# Altium schematic symbol library GRC sch library.SchLib: 282 symbols (part 2 of 3)
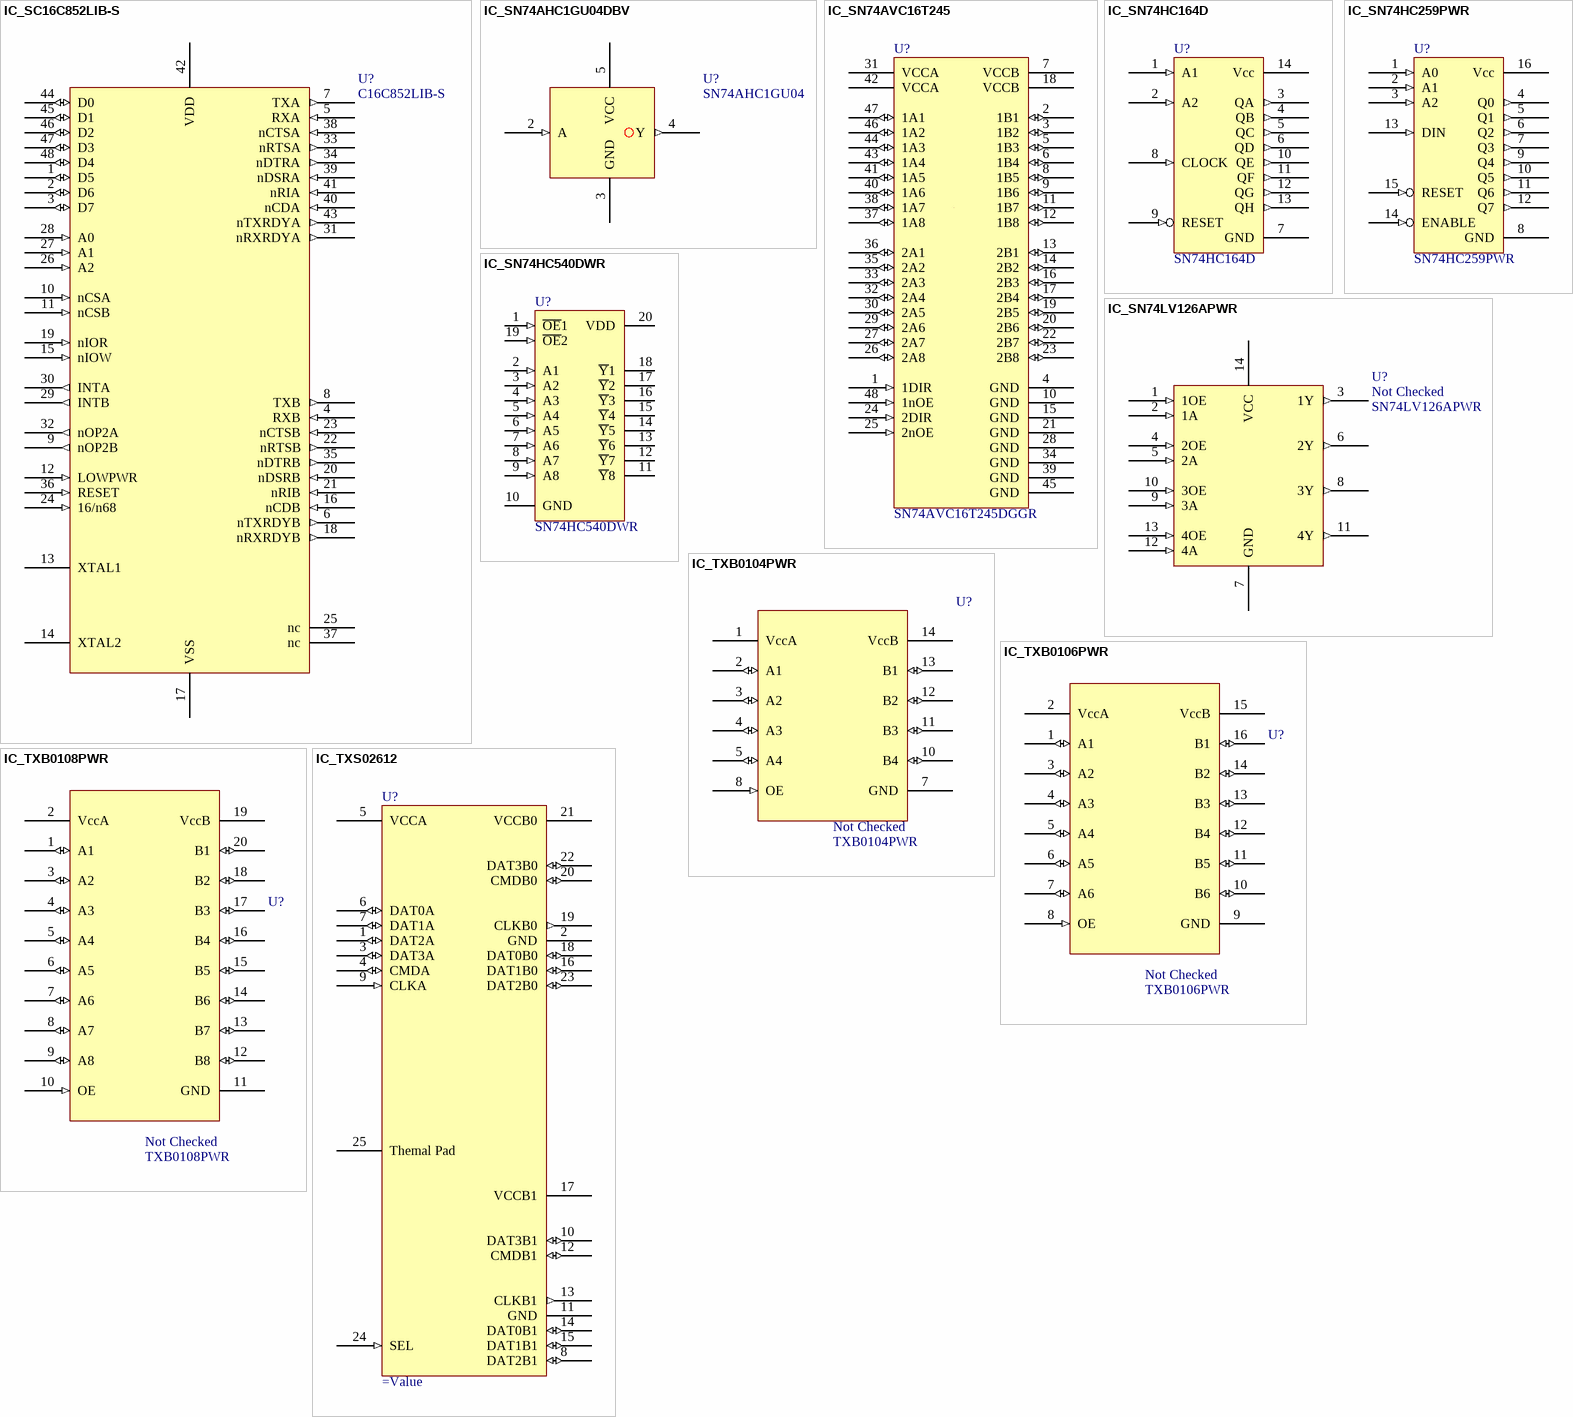
[diagram p10: symbols IC_SC16C852LIB-S to IC_TXS02612]

## IC_SN74HC540DWR
designator U?  value SN74HC540DWR  (hidden comment: IC_SN74HC540DWR)
IC OCT BUFF/DRVR TRI-ST 20-SOIC; Manufacturer: Texas Instrument; Prototype: Digikey  296-8333-1-ND; Manufacturer P/N: SN74HC540DWR
footprint G_SOIC-20 (SOIC, 20pins, 1.27 pitch)
pins: 1 ~{OE}1 (in), 2 A1 (in), 3 A2 (in), 4 A3 (in), 5 A4 (in), 6 A5 (in), 7 A6 (in), 8 A7 (in), 9 A8 (in), 10 GND (power), 11 ~{Y}8 (hiz), 12 ~{Y}7 (hiz), 13 ~{Y}6 (hiz), 14 ~{Y}5 (hiz), 15 ~{Y}4 (hiz), 16 ~{Y}3 (hiz), 17 ~{Y}2 (hiz), 18 ~{Y}1 (hiz), 19 ~{OE}2 (in), 20 VDD (power)

## IC_SN74LV126APWR
designator U?  value SN74LV126APWR  Verify: Not Checked  (hidden comment: *)
IC BUS BUF/GATE QUAD 3ST 14TSSOP; Manufacturer: Texas Instruments; Prototype: Digikey: 296-12992-1-ND; LastRevisionDate: n/a; Manufacturer PN: SN74LV126APWR
footprint G_TSSOP14 (Shrink Small Outline; 16 Leads; Body Width 4.4 mm; Pitch 0.65 mm)
pins: 1 1OE (in), 2 1A (in), 3 1Y (out), 4 2OE (in), 5 2A (in), 6 2Y (out), 7 GND (power), 8 3Y (out), 9 3A (in), 10 3OE (in), 11 4Y (out), 12 4A (in), 13 4OE (in), 14 VCC (power)

## IC_TXB0104PWR
designator U?  value TXB0104PWR  Verify: Not Checked  (hidden comment: *)
IC VOLT-LEVEL TRANSLATOR 14TSSOP; Manufacturer: Texas Instruments; Prototype: Digikey 296-21929-1-ND; LastRevisionDate: n/a; Manufacturer PN: TXB0104PWR
footprint TSSOP-14_PW (TSOP, 14-Leads, Body 5.1x4.5mm (max), Pitch 0.65mm, IPC Medium Density)
pins: 1 VccA (power), 2 A1 (io), 3 A2 (io), 4 A3 (io), 5 A4 (io), 7 GND (power), 8 OE (in), 10 B4 (io), 11 B3 (io), 12 B2 (io), 13 B1 (io), 14 VccB (power)

## IC_TXB0106PWR
designator U?  value TXB0106PWR  Verify: Not Checked  (hidden comment: *)
IC VOLT-LEVEL TRANSLATOR 16TSSOP; Manufacturer: Texas Instruments; Prototype: Digikey 296-23759-1-ND; LastRevisionDate: n/a; Manufacturer PN: TXB0106PWR
footprint TSSOP-16_PW (TSOP, 16-Leads, Body 5.1x4.5mm (max), Pitch 0.65mm, IPC Medium Density)
pins: 1 A1 (io), 2 VccA (power), 3 A2 (io), 4 A3 (io), 5 A4 (io), 6 A5 (io), 7 A6 (io), 8 OE (in), 9 GND (power), 10 B6 (io), 11 B5 (io), 12 B4 (io), 13 B3 (io), 14 B2 (io), 15 VccB (power), 16 B1 (io)

## IC_TXB0108PWR
designator U?  value TXB0108PWR  Verify: Not Checked  (hidden comment: *)
IC VOLT-LEVEL TRANSLATOR 20TSSOP; Manufacturer: Texas Instruments; Prototype: Digikey 296-21527-1-ND; LastRevisionDate: n/a; Manufacturer PN: TXB0108PWR
footprint TSSOP-20_PW (TSOP, 20-Leads, Body 6.6x4.5mm (max), Pitch 0.65mm, IPC Medium Density)
pins: 1 A1 (io), 2 VccA (power), 3 A2 (io), 4 A3 (io), 5 A4 (io), 6 A5 (io), 7 A6 (io), 8 A7 (io), 9 A8 (io), 10 OE (in), 11 GND (power), 12 B8 (io), 13 B7 (io), 14 B6 (io), 15 B5 (io), 16 B4 (io), 17 B3 (io), 18 B2 (io), 19 VccB (power), 20 B1 (io)

## IC_TXS02612
designator U?
SDIO port expander with Voltage-Level Translation
pins: 1 DAT2A (io), 2 GND (power), 3 DAT3A (io), 4 CMDA (io), 5 VCCA (power), 6 DAT0A (io), 7 DAT1A (io), 8 DAT2B1 (io), 9 CLKA (in), 10 DAT3B1 (io), 11 GND (power), 12 CMDB1 (io), 13 CLKB1 (out), 14 DAT0B1 (io), 15 DAT1B1 (io), 16 DAT1B0 (io), 17 VCCB1 (power), 18 DAT0B0 (io), 19 CLKB0 (out), 20 CMDB0 (io), 21 VCCB0 (power), 22 DAT3B0 (io), 23 DAT2B0 (io), 24 SEL (in), 25 Themal Pad (power)

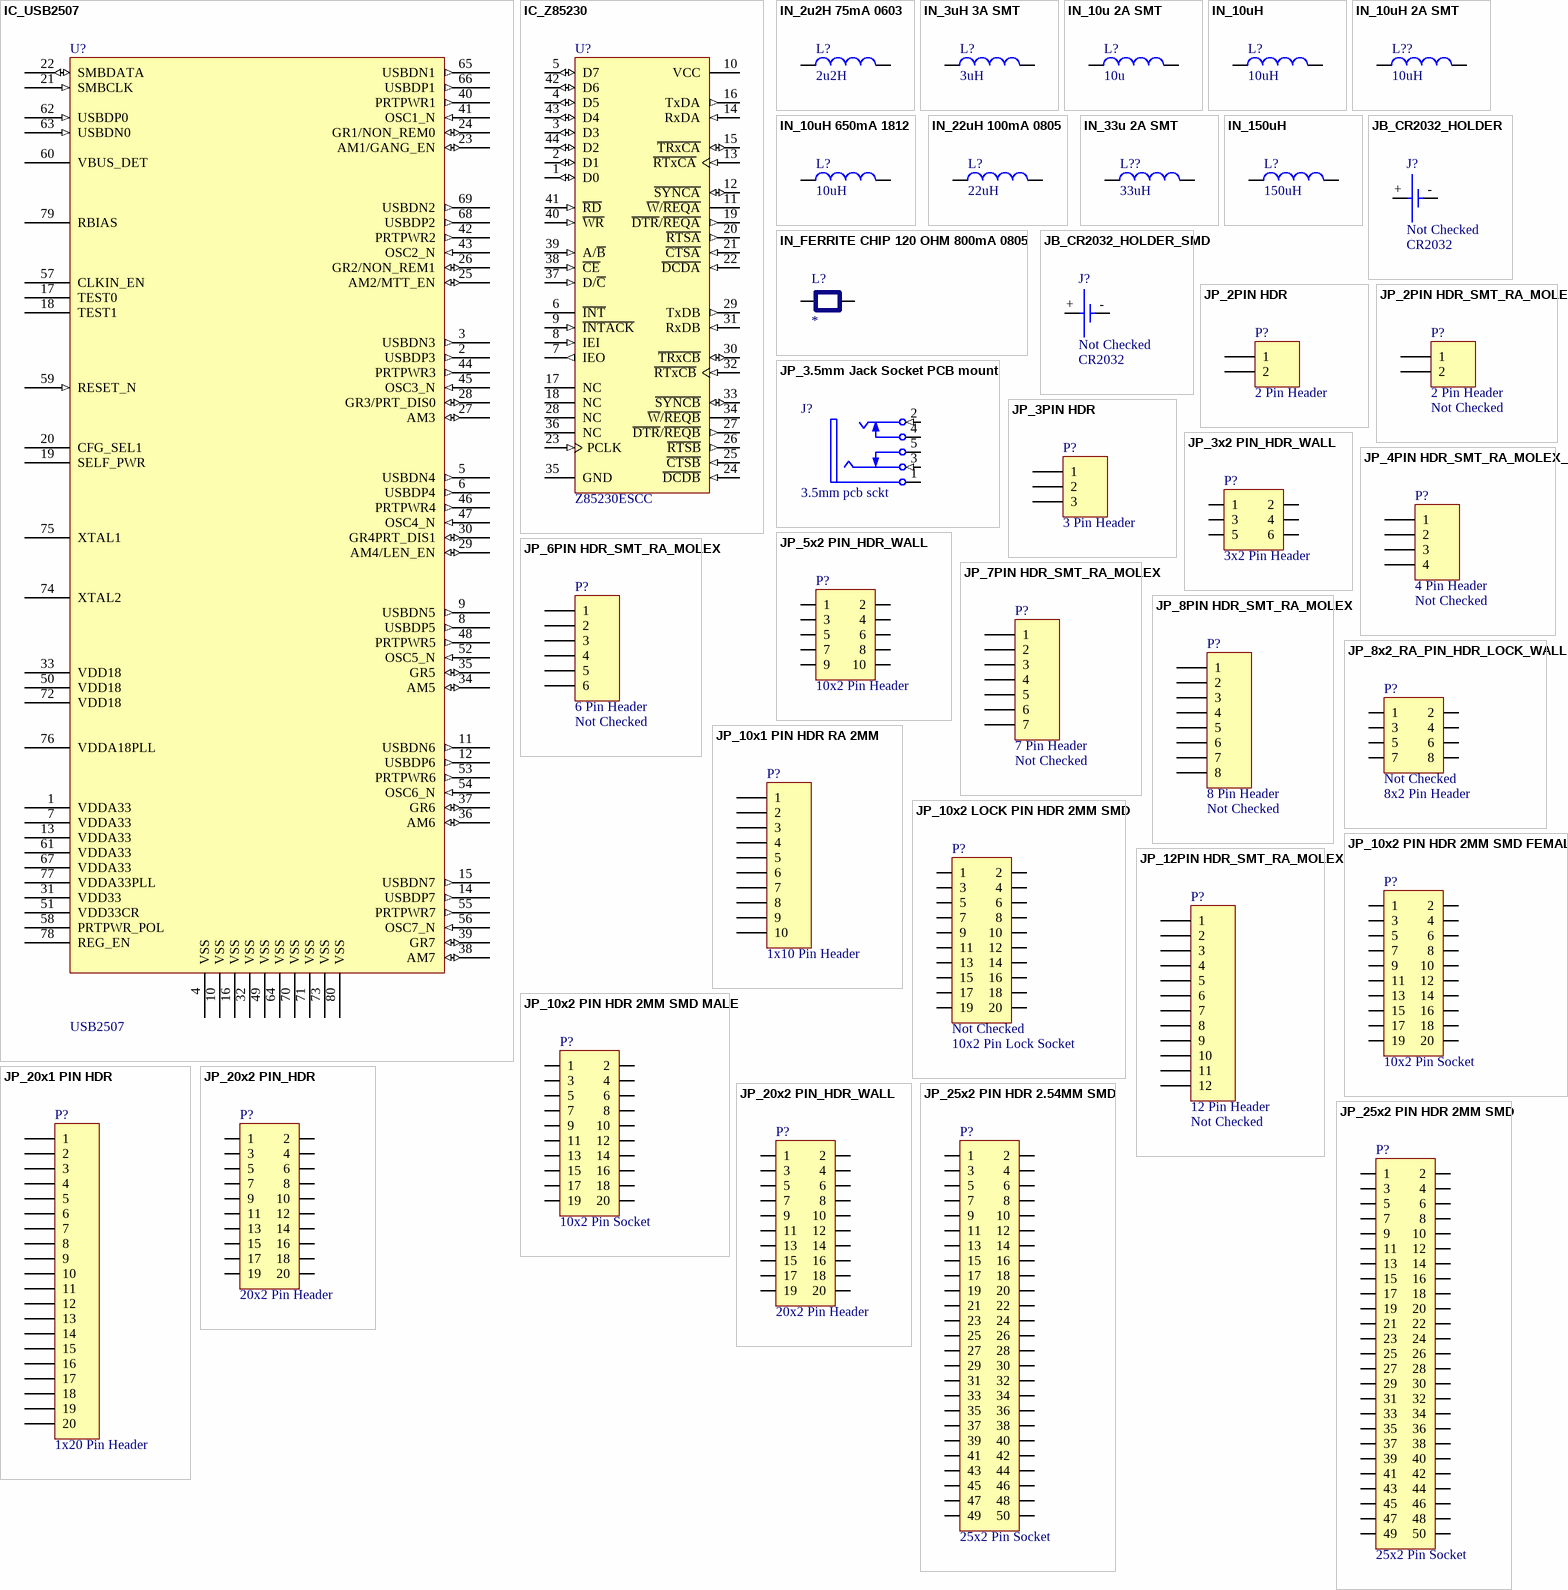
[diagram p5: symbols IC_USB2507 to JP_25x2 PIN HDR 2MM SMD]

## IC_USB2507
designator U?, comment USB2507
USB 2.0 480 Mbit Hub, 7 ports
pins: 1 VDDA33 (power), 2 USBDP3 (out), 3 USBDN3 (out), 4 VSS (power), 5 USBDN4 (out), 6 USBDP4 (out), 7 VDDA33 (power), 8 USBDP5 (out), 9 USBDN5 (out), 10 VSS (power), 11 USBDN6 (out), 12 USBDP6 (out), 13 VDDA33 (power), 14 USBDP7 (out), 15 USBDN7 (out), 16 VSS (power), 17 TEST0 (power), 18 TEST1 (power), 19 SELF_PWR (power), 20 CFG_SEL1 (power), 21 SMBCLK (in), 22 SMBDATA (io), 23 AM1/GANG_EN (io), 24 GR1/NON_REM0 (io), 25 AM2/MTT_EN (io), 26 GR2/NON_REM1 (io), 27 AM3 (io), 28 GR3/PRT_DIS0 (io), 29 AM4/LEN_EN (io), 30 GR4PRT_DIS1 (io), 31 VDD33 (power), 32 VSS (power), 33 VDD18 (power), 34 AM5 (io), 35 GR5 (io), 36 AM6 (io), 37 GR6 (io), 38 AM7 (io), 39 GR7 (io), 40 PRTPWR1 (out), 41 OSC1_N (in), 42 PRTPWR2 (out), 43 OSC2_N (in), 44 PRTPWR3 (out), 45 OSC3_N (in), 46 PRTPWR4 (out), 47 OSC4_N (in), 48 PRTPWR5 (out), 49 VSS (power), 50 VDD18 (power), 51 VDD33CR (power), 52 OSC5_N (in), 53 PRTPWR6 (out), 54 OSC6_N (in), 55 PRTPWR7 (out), 56 OSC7_N (in), 57 CLKIN_EN (power), 58 PRTPWR_POL (power), 59 RESET_N (in), 60 VBUS_DET (power), 61 VDDA33 (power), 62 USBDP0 (in), 63 USBDN0 (in), 64 VSS (power), 65 USBDN1 (out), 66 USBDP1 (out), 67 VDDA33 (power), 68 USBDP2 (out), 69 USBDN2 (out), 70 VSS (power), 71 VSS (power), 72 VDD18 (power), 73 VSS (power), 74 XTAL2 (power), 75 XTAL1 (power), 76 VDDA18PLL (power), 77 VDDA33PLL (power), 78 REG_EN (power), 79 RBIAS (power), 80 VSS (power)

## IC_Z85230
designator U?  value Z85230ESCC  (hidden comment: *)
IC 10MHZ ESCC 44-PLCC; Manufacturer: Zilog; ManufacturerPN: Z8523010VSG; Prototype: Digikey 269-3923-ND; Verify: Not Verified
footprint PCC44-M (Leaded Chip Carrier, 44-Leads, Body 16.6x16.6mm, Pitch 1.27mm, IPC Low Density)
pins: 1 D0 (io), 2 D1 (io), 3 D3 (io), 4 D5 (io), 5 D7 (io), 6 ~{INT} (oc), 7 IEO (out), 8 IEI (in), 9 ~{INTACK} (in), 10 VCC (power), 11 ~{W}/~{REQA} (oc), 12 ~{SYNCA} (io), 13 ~{RTxCA} (in), 14 RxDA (in), 15 ~{TRxCA} (io), 16 TxDA (out), 17 NC, 18 NC, 19 ~{DTR}/~{REQA} (out), 20 ~{RTSA} (out), 21 ~{CTSA} (in), 22 ~{DCDA} (in), 23 PCLK (in), 24 ~{DCDB} (in), 25 ~{CTSB} (in), 26 ~{RTSB} (out), 27 ~{DTR}/~{REQB} (out), 28 NC, 29 TxDB (out), 30 ~{TRxCB} (io), 31 RxDB (in), 32 ~{RTxCB} (in), 33 ~{SYNCB} (io), 34 ~{W}/~{REQB} (oc), 35 GND (power), 36 NC, 37 D/~{C} (in), 38 ~{CE} (in), 39 A/~{B} (in), 40 ~{WR} (in), 41 ~{RD} (in), 42 D6 (io), 43 D4 (io), 44 D2 (io)

## IN_2u2H 75mA 0603
designator L?, comment 2u2H
INDUCTOR 2.2UH 75MA 20% 0603; Manufacturer PN: GLF1608T2R2M; Manufacturer: TDK Corporation; Prototype: Digikey 445-3152-1-ND; LatestRevisionDate: 29 May 08; Value: 2u2H
simulation model INDUCTOR (Inductor)
signal-integrity model Inductor
footprint 0603 (Non polarized 0603 footprint)
pins: 1, 2

## IN_3uH 3A SMT
designator L?, comment 3uH
Inductor 3uH 3A SMD; Manufacturer: API Delevan Inc; Manufacturer PN: SDS130R-302N; Prototype: Digikey DN7525CT-ND; LatestRevisionDate: 29 May 08; Value: 3uH
simulation model INDUCTOR (Inductor)
signal-integrity model Inductor
footprint SMD_CHOKE_3A (Surface Mount Shielded Power Choke)
pins: 1, 2

## IN_10u 2A SMT
designator L?, comment value 10u  (hidden comment: Inductor)
INDUCTOR POWER 10UH 2.0A SMD; Manufacturer: Wurth Electronics Inc; Manufacturer PN: 744777910; Code_IEC: 1005; Prototype: Digikey 732-1191-1-ND; Published: 8-Jun-2000; LatestRevisionDate: 17-Jul-2002; LatestRevisionNote: Re-released for DXP Platform.; PackageReference: 0402-A; Publisher: Altium Limited; Code_JEITA: 0402
simulation model INDUCTOR (Inductor)
signal-integrity model Inductor
footprint WE-PD (Inductor 7.6x7.6mm)
pins: 1, 2

## IN_10uH
designator L?, comment 10uH
Tayo-Yuden NP04SZB100M; Prototype: Digikey 587-1681-1-ND; LatestRevisionDate: 29 May 08; Manufacturer: Tayo-Yuden; Manufacturer PN: NP04SZB100M; Value: 10uH
simulation model INDUCTOR (Inductor)
signal-integrity model Inductor
footprint INDUCT_NP04S (Tayo-Yuden Inductor NP04S series)
pins: 1, 2

## IN_10uH 2A SMT
designator L??, comment 10uH
INDUCTOR POWER 10UH 2.0A SMD; Manufacturer: Wurth Electronics Inc; Manufacturer PN: 744777910; Prototype: Digikey 732-1191-1-ND; LatestRevisionDate: 29 May 08; Value: 10uH
simulation model INDUCTOR (Inductor)
signal-integrity model Inductor
footprint WE-PD (Inductor 7.6x7.6mm)
pins: 1, 2

## IN_10uH 650mA 1812
designator L?, comment 10uH
INDUCTOR 10UH 10% 650mA 1812; Manufacturer PN: LQH43CN100K03L; Manufacturer: Murata; Prototype: Digikey   490-2519-1-ND; LatestRevisionDate: 28 July 2008; Value: 10uH
simulation model INDUCTOR (Inductor)
signal-integrity model Inductor
footprint G_1812 (Footprint not found)
pins: 1, 2

## IN_22uH 100mA 0805
designator L?, comment 22uH
Inductor 22uH 100mA 10% 0805; Manufacturer PN: GLF2012T220K; Manufacturer: TDK Corporation; Prototype: Digikey 445-3160-1-ND; LatestRevisionDate: 29 May 08; Value: 22uH
simulation model INDUCTOR (Inductor)
signal-integrity model Inductor
footprint 0805
pins: 1, 2

## IN_33u 2A SMT
designator L??, comment value 33uH  (hidden comment: Inductor)
INDUCTOR POWER SHIELD 33UH 2.6A SMD; Manufacturer: Coiltronics; Manufacturer PN: DR124-330-R; Prototype: Digikey 513-1435-1-ND; Verify: Not Checked; LatestRevisionDate: 20 Feb 09
simulation model INDUCTOR (Inductor)
signal-integrity model Inductor
footprint dr124 (Coiltronics DR124 Series Inductor)
pins: 1, 2

## IN_150uH
designator L?, comment 150uH
AlfaMag SH50S Series 150uF, 2A, 50KHz; Manufacturer: AlfaMag Electronics, LLC; Manufacturer PN: SH50S-2.0-150; Prototype: Digikey TE2143CT-ND; LatestRevisionDate: 12 January 09; Value: 150uH
simulation model INDUCTOR (Inductor)
signal-integrity model Inductor
footprint INDUCT_SH50S6A (Talema SH50 Series Package S6A SMD inductor)
pins: 1, 2

## IN_FERRITE CHIP 120 OHM 800mA 0805
designator L?
FERRITE CHIP 120 OHM 800mA 0805; Manufacturer: TDK; Manufacturer P/N: MMZ2012Y121B; Prototype: Digikey 	445-2196-1-ND
footprint 0805
pins: 1 0 (power), 2 1 (power)

## JB_CR2032_HOLDER
designator J?, comment Verify: Not Checked  (hidden comment: CR2032)
HOLDER BATTERY FOR 2032 CELL; Manufacturer: MPD (Memory Protection Devices); Manufacturer PN: BH32T-C; Prototype: Digikey BH32T-C-ND; Value: CR2032
footprint CR2032_BAT_HOLDER (CR2032 or BR2032 20mm button battery holder)
pins: +, -

## JB_CR2032_HOLDER_SMD
designator J?, comment Verify: Not Checked  (hidden comment: CR2032)
SMD HOLDER BATTERY FOR 2032 CELL; Manufacturer: MPD (Memory Protection Devices); Manufacturer PN: BA2032SM; Prototype: Digikey BA2032SM-ND; Value: CR2032
footprint CR2032_BATT_HOLDER_MPD (MPD BA Series 2032 Coin Cell holder)
pins: +, -

## JP_2PIN HDR
designator P?, comment 2 Pin Header
CONN HDR VERT 2POS .100" SNGL; LatestRevisionDate: 24 Jun 08; Value: 2 Pin Header
footprint G_HDR1X2 (Connector; Header; 2 Position)
signal-integrity model Connector
pins: 1, 2

## JP_2PIN HDR_SMT_RA_MOLEX
designator P?, comment Verify: Not Checked  (hidden comment: 2 Pin Header)
CONN HDR VERT 2POS .100" SNGL; Manufacturer: Molex; Manufacturer PN: 53261-0271; Prototype: Digikey WM7620CT-ND; LatestRevisionDate: 24 Jun 08; Value: 2 Pin Header
footprint CONN_2X1_SMT_RA_1.25MM (PicoBlade 5326 Series Header)
pins: 1, 2

## JP_3.5mm Jack Socket PCB mount
designator J?, comment 3.5mm pcb sckt
PCB Receptacle Assembly, 5 contacts, Right Angle; Manufacturer: CUI Inc; Manufacturer PN: SJ1-3525N; Pin Gender: Female; Verify: Digikey CP1-3525N-ND; Orientation: Right Angle; LastRevisionDate: 5 Feb 2009; Value: 3.5mm pcb sckt
footprint 3.5mm Audio Jack Socket (pcb mount 3.5mm socket)
pins: 1 SLEEVE (power) "Sleeve (Ground)", 2 RING (in) "Ring/Right Channel/(-)", 3 TIP (in) "Tip/Left Channel/(+)", 4 RING SWITCH "Ring Normal (Break Contact)", 5 TIP SWITCH "Tip Normal (Break Contact)"

## JP_3PIN HDR
designator P?, comment 3 Pin Header
CONN HDR VERT 3POS .100" SNGL; LatestRevisionDate: 24 Jun 08; Value: 3 Pin Header
footprint G_HDR1X3 (Connector; Header; 3 Position)
signal-integrity model Connector
pins: 1, 2, 3

## JP_3x2 PIN_HDR_WALL
designator P?, comment 3x2 Pin Header
CONN HEADER 6 POS 3x2 GOLD; Manufacturer: Molex; Manufacturer PN: 90130-1206; Prototype: DigiKey WM8247-ND; LatestRevisionDate: 8 August 08; Value: 3x2 Pin Header
footprint HDR2X3 (Connector; Header; 3x2 Position)
pins: 1, 2, 3, 4, 5, 6

## JP_4PIN HDR_SMT_RA_MOLEX_1
designator P?, comment Verify: Not Checked  (hidden comment: 4 Pin Header)
CONN HDR VERT 4POS .100" SNGL; Manufacturer: Molex; Manufacturer PN: 53261-0471; Prototype: Digikey WM7622CT-ND; LatestRevisionDate: 24 Jun 08; Value: 4 Pin Header
footprint CONN_4X1_SMT_RA_1.25MM (PicoBlade 5326 Series Header)
pins: 1, 2, 3, 4

## JP_5x2 PIN_HDR_WALL
designator P?, comment 10x2 Pin Header
CONN HEADER 10 POS STRGHT GOLD; Manufacturer: 3M; Manufacturer PN: N2510-6002RB; Prototype: DigiKey MHC10K-ND; LatestRevisionDate: 2 Jun 08; Value: 10x2 Pin Header
footprint G_HDR2x5_WALL (Connector; Wall Header; 5x2 Position)
pins: 1, 2, 3, 4, 5, 6, 7, 8, 9, 10

## JP_6PIN HDR_SMT_RA_MOLEX
designator P?, comment Verify: Not Checked  (hidden comment: 6 Pin Header)
CONN HDR VERT 6POS .100" SNGL; Manufacturer: Molex; Manufacturer PN: 53261-0671; Prototype: Digikey WM7624CT-ND; LatestRevisionDate: 24 Jun 08; Value: 6 Pin Header
footprint CONN_6X1_SMT_RA_1.25MM (PicoBlade 5326 Series Header)
pins: 1, 2, 3, 4, 5, 6

## JP_7PIN HDR_SMT_RA_MOLEX
designator P?, comment Verify: Not Checked  (hidden comment: 7 Pin Header)
CONN HDR VERT 7POS .100" SNGL; Manufacturer: Molex; Manufacturer PN: 53261-0771; Prototype: Digikey WM7626CT-ND; LatestRevisionDate: 24 Jun 08; Value: 7 Pin Header
footprint CONN_7X1_SMT_RA_1.25MM (PicoBlade 5326 Series Header)
pins: 1, 2, 3, 4, 5, 6, 7

## JP_8PIN HDR_SMT_RA_MOLEX
designator P?, comment Verify: Not Checked  (hidden comment: 8 Pin Header)
CONN HDR VERT 8POS .100" SNGL; Manufacturer: Molex; Manufacturer PN: 53261-0871; Prototype: Digikey WM7626CT-ND; LatestRevisionDate: 24 Jun 08; Value: 8 Pin Header
footprint CONN_8X1_SMT_RA_1.25MM (PicoBlade 5326 Series Header)
pins: 1, 2, 3, 4, 5, 6, 7, 8

## JP_8x2_RA_PIN_HDR_LOCK_WALL
designator P?, comment Verify: Not Checked  (hidden comment: 8x2 Pin Header)
CONN HEADER 8POS 2MM RT ANG TIN; Manufacturer: Hirose Electric Co Ltd; Manufacturer PN: DF11-8DP-2DS(24); Prototype: DigiKey H10246-ND; LatestRevisionDate: 2 Jun 08; Value: 8x2 Pin Header
footprint HIROSE_RA_DF11_2x4 (Hirose Right Angle, 2mm, 2x4 pins)
pins: 1, 2, 3, 4, 5, 6, 7, 8

## JP_10x1 PIN HDR RA 2MM
designator P?, comment 1x10 Pin Header
CONN HEADER 10POS 2MM R/A GOLD; Manufacturer: Hirose Electric Co Ltd; Manufacturer PN: DF3-10P-2DS(01); Prototype: Digikey H3915-ND; LatestRevisionDate: 2 Jun 08; Value: 1x10 Pin Header
signal-integrity model Connector
footprint G_HDR_10x1_RA_2mm (Hirose DF3 series 10x1 Header 2mm Right Angle)
pins: 1, 2, 3, 4, 5, 6, 7, 8, 9, 10

## JP_10x2 LOCK PIN HDR 2MM SMD
designator P?, comment Verify: Not Checked  (hidden comment: 10x2 Pin Lock Socket)
CONN 20POS 2MM HEADER MALE DL STR SMD; Manufacturer: Hirose; Manufacturer PN: DF11G-20DP-2V(50); Prototype: DigiKey H2905-ND; LatestRevisionDate: 2 Jun 08; Value: 10x2 Pin Lock Socket
signal-integrity model Connector
footprint CONN_20x2_2mm_DF11 (Hirose DF11 series male header)
pins: 1, 2, 3, 4, 5, 6, 7, 8, 9, 10, 11, 12, 13, 14, 15, 16, 17, 18, 19, 20

## JP_10x2 PIN HDR 2MM SMD FEMALE
designator P?, comment 10x2 Pin Socket
CONN 20POS 2MM HEADER DL STR SMD; Manufacturer: Samtec Inc; Manufacturer PN: SQW-110-01-L-D-VS; Prototype: Digikey SAM1250-10-ND; LatestRevisionDate: 2 Jun 08; Value: 10x2 Pin Socket
signal-integrity model Connector
footprint G_CONN_10X2_THR_2MM FEMALE
pins: 1, 2, 3, 4, 5, 6, 7, 8, 9, 10, 11, 12, 13, 14, 15, 16, 17, 18, 19, 20

## JP_10x2 PIN HDR 2MM SMD MALE
designator P?, comment 10x2 Pin Socket
CONN 20POS 2MM HEADER DL STR SMD; Manufacturer: 3M; Manufacturer PN: 151220-2420-RB; Prototype: DigiKey 3M5364-ND; LatestRevisionDate: 2 Jun 08; Value: 10x2 Pin Socket
signal-integrity model Connector
footprint G_CONN_10x2_SMT_2MM MALE (3M Pin Strip Header 1512 series)
pins: 1, 2, 3, 4, 5, 6, 7, 8, 9, 10, 11, 12, 13, 14, 15, 16, 17, 18, 19, 20

## JP_12PIN HDR_SMT_RA_MOLEX
designator P?, comment Verify: Not Checked  (hidden comment: 12 Pin Header)
CONN HDR VERT 12POS .100" SNGL; Manufacturer: Molex; Manufacturer PN: 53261-1271; Prototype: Digikey WM7630CT-ND; LatestRevisionDate: 24 Jun 08; Value: 12 Pin Header
footprint CONN_12X1_SMT_RA_1.25MM (PicoBlade 5326 Series Header)
pins: 1, 2, 3, 4, 5, 6, 7, 8, 9, 10, 11, 12

## JP_20x1 PIN HDR
designator P?, comment 1x20 Pin Header
Header, 20x1 Pin; LatestRevisionDate: 2 Jun 08; Value: 1x20 Pin Header
footprint G_HDR1X20 (Connector; Header; 20 Position)
signal-integrity model Connector
pins: 1, 2, 3, 4, 5, 6, 7, 8, 9, 10, 11, 12, 13, 14, 15, 16, 17, 18, 19, 20

## JP_20x2 PIN_HDR
designator P?, comment 20x2 Pin Header
CONN HEADER .100 DUAL STR 20POS; Manufacturer: Sullins Connector Solutions; Manufacturer PN: PEC10DAAN; Prototype: DigiKey S2012E-10-ND; LatestRevisionDate: 2 Jun 08; Value: 20x2 Pin Header
footprint G_HDR2X10 (Connector; Header; 10x2 Position)
pins: 1, 2, 3, 4, 5, 6, 7, 8, 9, 10, 11, 12, 13, 14, 15, 16, 17, 18, 19, 20

## JP_20x2 PIN_HDR_WALL
designator P?, comment 20x2 Pin Header
CONN HEADER 20 POS STRGHT GOLD; Manufacturer: 3M; Manufacturer PN: N2520-6002RB; Prototype: DigiKey MHC20K-ND; LatestRevisionDate: 2 Jun 08; Value: 20x2 Pin Header
footprint G_HDR2x10_WALL (Connector; Wall Header; 10x2 Position)
pins: 1, 2, 3, 4, 5, 6, 7, 8, 9, 10, 11, 12, 13, 14, 15, 16, 17, 18, 19, 20

## JP_25x2 PIN HDR 2.54MM SMD
designator P?, comment 25x2 Pin Socket
CONN 50POS 2.54MM HEADER DL STR SMD; Manufacturer: 3M; Manufacturer PN: N2550-6V0C-RB-WG; Prototype: DigiKey MSH50KCT-ND; LatestRevisionDate: 2 Jun 08; Value: 25x2 Pin Socket
signal-integrity model Connector
footprint CONN_25x2_SMT_2.54MM (3M Connector SMT 2500 series 50pins 2 rows)
pins: 1, 2, 3, 4, 5, 6, 7, 8, 9, 10, 11, 12, 13, 14, 15, 16, 17, 18, 19, 20, 21, 22, 23, 24, 25, 26, 27, 28, 29, 30, 31, 32, 33, 34, 35, 36, 37, 38, 39, 40, 41, 42, 43, 44, 45, 46, 47, 48, 49, 50

## JP_25x2 PIN HDR 2MM SMD
designator P?, comment 25x2 Pin Socket
CONN 50POS 2MM HEADER DL STR SMD; Manufacturer: 3M; Manufacturer PN: 151250-2420-RB-WF; Prototype: DigiKey 3M5376CT-ND; LatestRevisionDate: 2 Jun 08; Value: 25x2 Pin Socket
signal-integrity model Connector
footprint CONN_25x2_SMT_2MM (3M Pin Strip Header 1512 series)
pins: 1, 2, 3, 4, 5, 6, 7, 8, 9, 10, 11, 12, 13, 14, 15, 16, 17, 18, 19, 20, 21, 22, 23, 24, 25, 26, 27, 28, 29, 30, 31, 32, 33, 34, 35, 36, 37, 38, 39, 40, 41, 42, 43, 44, 45, 46, 47, 48, 49, 50

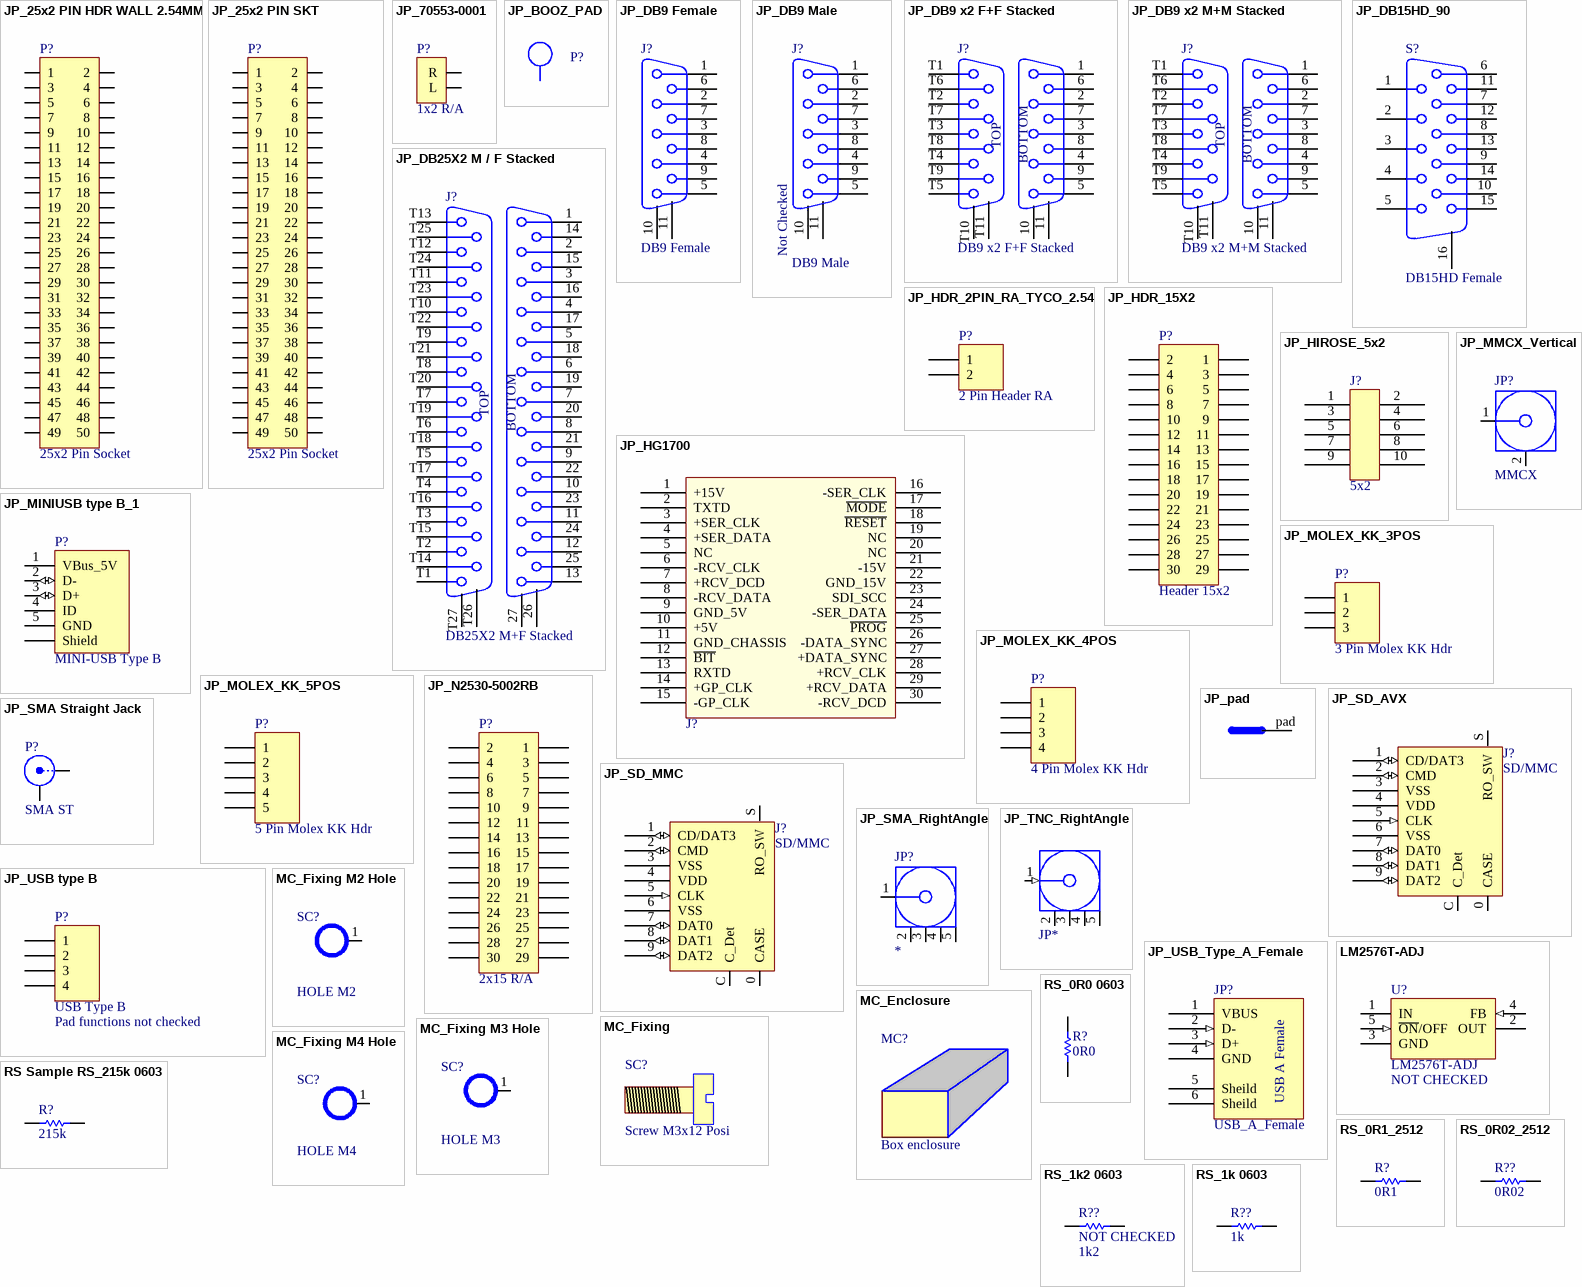
[diagram p6: symbols JP_25x2 PIN HDR WALL 2.54MM to RS_1k 0603]

## JP_25x2 PIN HDR WALL 2.54MM
designator P?, comment 25x2 Pin Socket
CONN 50POS 2.54MM HEADER DL STR; Manufacturer: 3M; Manufacturer PN: N2550-6002RB; Prototype: DigiKey MHC50K-ND; LatestRevisionDate: 2 Jun 08; Value: 25x2 Pin Socket
signal-integrity model Connector
footprint G_HDR2X25_WALL (Connector; Wall Header; 25x2 Position,)
pins: 1, 2, 3, 4, 5, 6, 7, 8, 9, 10, 11, 12, 13, 14, 15, 16, 17, 18, 19, 20, 21, 22, 23, 24, 25, 26, 27, 28, 29, 30, 31, 32, 33, 34, 35, 36, 37, 38, 39, 40, 41, 42, 43, 44, 45, 46, 47, 48, 49, 50

## JP_25x2 PIN SKT
designator P?, comment 25x2 Pin Socket
Header, 25x2 Socket; Manufacturer: 3M; Manufacturer PN: N2550-6002RB; Prototype: DigiKey MHC50K-ND; LatestRevisionDate: 2 Jun 08; Value: 25x2 Pin Socket
footprint G_HDR2X25 (Connector; Header; 25x2 Position)
signal-integrity model Connector
pins: 1, 2, 3, 4, 5, 6, 7, 8, 9, 10, 11, 12, 13, 14, 15, 16, 17, 18, 19, 20, 21, 22, 23, 24, 25, 26, 27, 28, 29, 30, 31, 32, 33, 34, 35, 36, 37, 38, 39, 40, 41, 42, 43, 44, 45, 46, 47, 48, 49, 50

## JP_70553-0001
designator P?, comment 1x2 R/A
CONN HEADER 2POS .100 R/A GOLD; Manufacturer: MOLEX; Manufacturer PN: 70553-0001; Prototype: DigiKey WM4900-ND; Verify: Not Checked; LatestRevisionDate: 26 Feb 09; Value: 1x2 R/A
footprint G_TYCO_2x1_HDR_RA (Tyco Header Connector 2.54 Single Row Right Angle with Latching)
pins: 1 L, 2 R

## JP_BOOZ_PAD
designator P?
Pad for booz power board; LatestRevisionDate: 24 Jun 09
footprint BOOZ_MOTOR (Motor power pad for booz power board)
footprint BOOZ_POWER (power pad for booz power board)
pins: 1 (power)

## JP_DB9 Female
designator J?, comment DB9 Female
Receptacle Assembly, 9 Position, Right Angle; Manufacturer: TYCO ELECTRONICS / AMP; Manufacturer PN: 1734348-2; Prototype: DigiKey: A35110-ND; Orientation: Right Angle; Pin Gender: Female; Shell gender: Male; LastRevisionDate: 25 June 08; Value: DB9 Female
signal-integrity model Connector
footprint DB-9 Female 90deg (Connector; D Subminiature; 9 Position; Right Angle; Pitch 1.385 mm)
pins: 1, 2, 3, 4, 5, 6, 7, 8, 9, 10 MH2, 11 MH1

## JP_DB9 Male
designator J?, comment Verify: Not Checked  (hidden comment: DB9 Male)
Receptacle Assembly, 9 Position, Right Angle; Manufacturer: TYCO ELECTRONICS / AMP; Manufacturer PN: 1734352-1; Prototype: DigiKey: A35113-ND; Orientation: Right Angle; Pin Gender: Male; Shell gender: Female; LastRevisionDate: 25 June 08; Value: DB9 Male
signal-integrity model Connector
footprint G_DB-9 Male 90deg (Connector; D Subminiature; 9 Position; Right Angle; Pitch 1.385 mm)
pins: 1, 2, 3, 4, 5, 6, 7, 8, 9, 10 MH2, 11 MH1

## JP_DB9 x2 F+F Stacked
designator J?, comment DB9 x2 F+F Stacked
Receptacle Assembly, 9/9 Position, Right Angle 0.625 centres; Manufacturer: Norcomp Inc.; Manufacturer PN: 189-009-513R571; Pin Gender: Female + Female; Prototype: Digikey 1009FFE-ND; Orientation: Right Angle; Shell gender: Male; LastRevisionDate: 29 May 08; Value: DB9 x2 F+F Stacked
signal-integrity model Connector
footprint DB9x2 F/F (Dual Port DB9 Female - Female Sub)
pins: 1, 2, 3, 4, 5, 6, 7, 8, 9, 10 MH2, 11 MH1, T1 1, T2 2, T3 3, T4 4, T5 5, T6 6, T7 7, T8 8, T9 9, T10 MH2, T11 MH1
text: TOP; BOTTOM

## JP_DB9 x2 M+M Stacked
designator J?, comment DB9 x2 M+M Stacked
Receptacle Assembly, 9/9 Position, Right Angle 0.625 centres; Manufacturer: Norcomp Inc.; Manufacturer PN: 189-009-613R691; Pin Gender: Male + Male; Prototype: Digikey 189-509MME-ND; Orientation: Right Angle; Shell gender: Male; LastRevisionDate: 29 May 08; Value: DB9 x2 M+M Stacked
signal-integrity model Connector
footprint DB9x2 M/M (Dual Port DB9 Male - Male Sub)
pins: 1, 2, 3, 4, 5, 6, 7, 8, 9, 10 MH2, 11 MH1, T1 1, T2 2, T3 3, T4 4, T5 5, T6 6, T7 7, T8 8, T9 9, T10 MH2, T11 MH1
text: TOP; BOTTOM

## JP_DB15HD_90
designator S?  value DB15HD Female
Receptacle Assembly, 90 Degrees, 15Pins, High Density, DB9 size; Manufacturer: Norcomp Inc.; Manufacturer PN: 181-015-213R561; Prototype: DigiKey: 181-215RFE-ND
footprint DB15HD_F_90DEG (DB15 High Density 90deg Female receptacle)
pins: 1, 2, 3, 4, 5, 6, 7, 8, 9, 10 MH2, 11 MH1, 12, 13, 14, 15, 16

## JP_DB25X2 M / F Stacked
designator J?, comment DB25X2 M+F Stacked
Receptacle Assembly, 25x2 Male over Female, Right Angle; Manufacturer: Norcomp Inc.; Manufacturer PN: 189-025-413R571; Pin Gender: 25 male 25 female; Prototype: Digikey 1025MFE-ND; LastRevisionDate: 29 May 08; Orientation: Right Angle; Shell gender: Upper Recept, Lower Male; Value: DB25X2 M+F Stacked
signal-integrity model Connector
footprint DB25x2 M/F (DB25 stacked x2 Male over Female)
pins: 1, 2, 3, 4, 5, 6, 7, 8, 9, 10, 11, 12, 13, 14, 15, 16, 17, 18, 19, 20, 21, 22, 23, 24, 25, 26 MH1, 27 MH2, T1 1, T2 2, T3 3, T4 4, T5 5, T6 6, T7 7, T8 8, T9 9, T10 10, T11 11, T12 12, T13 13, T14 14, T15 15, T16 16, T17 17, T18 18, T19 19, T20 20, T21 21, T22 22, T23 23, T24 24, T25 25, T26 MH1, T27 MH2
text: TOP; BOTTOM

## JP_HDR_2PIN_RA_TYCO_2.54
designator P?, comment 2 Pin Header RA
CONN HEADER RT/A .100 2POS 15AU; Manufacturer: Tyco Electronics Amp; Manufacturer PN: 5-103635-1; Prototype: Digikey A33856-ND; LatestRevisionDate: 24 Jun 08; Value: 2 Pin Header RA
signal-integrity model Connector
footprint G_TYCO_2x1_HDR_RA (Tyco Header Connector 2.54 Single Row Right Angle with Latching)
pins: 1, 2

## JP_HDR_15X2
designator P?  value Header 15x2  (hidden comment: JP_HDR_15X2)
Header, 15-Pin, Dual row; Prototype: NOT DEFINED; LatestRevisionDate: 17-Jul-2002; LatestRevisionNote: Re-released for DXP Platform.; Publisher: Altium Limited; Manufacturer: NOT DEFINED; Manufacturer PN: NOT DEFINED
footprint G-HDR2X15 (15pin Dual Row std connector)
signal-integrity model Connector
pins: 1, 2, 3, 4, 5, 6, 7, 8, 9, 10, 11, 12, 13, 14, 15, 16, 17, 18, 19, 20, 21, 22, 23, 24, 25, 26, 27, 28, 29, 30

## JP_HG1700
designator J?
HoneyWell HG1700 Connector; Manufacturer: Keystone Electronics; Manufacturer PN: 1238; Prototype: Digikey P/N 1238K-ND
footprint HG1700_.125 (HoneyWell Connector)
pins: 1 +15V (power), 2 TXTD, 3 +SER_CLK, 4 +SER_DATA, 5 NC, 6 -RCV_CLK, 7 +RCV_DCD, 8 -RCV_DATA, 9 GND_5V (power), 10 +5V (power), 11 GND_CHASSIS (power), 12 ~{BIT}, 13 RXTD, 14 +GP_CLK, 15 -GP_CLK, 16 -SER_CLK, 17 ~{MODE}, 18 ~{RESET}, 19 NC, 20 NC, 21 -15V (power), 22 GND_15V (power), 23 SDI_SCC, 24 -SER_DATA, 25 ~{PROG}, 26 -DATA_SYNC, 27 +DATA_SYNC, 28 +RCV_CLK, 29 +RCV_DATA, 30 -RCV_DCD

## JP_HIROSE_5x2
designator J?  value 5x2
CONN HEADER 10POS DUAL SMD GOLD; Manufacturer: Hirose Electric Co Ltd; Manufacturer PN: DF20F-10DP-1V(56); Manufacturer Matching Part: DF20A-10DS-1C; Prototype: DigiKey H10726CT-ND
footprint HIROSE_5x2 (Hirose Double Row Straight Pin header SMT 5x2 1mm pitch)
pins: 1 0, 2 1, 3 2, 4 3, 5 4, 6 5, 7 6, 8 7, 9 8, 10 9

## JP_MINIUSB type B_1
designator P?, comment MINI-USB Type B
MINI-USB Type B Single Connector; Manufacturer PN: UX60-MB-5ST; Manufacturer: Hirose Electric Co Ltd; Prototype: Digikey H2959CT-ND; LatestRevisionDate: 29 May 08; Value: MINI-USB Type B
footprint Hir_MINI_USB_B (Mini-USB Receptacle Type B - Metal Shield - SMT - With Positioning Post)
pins: 1 VBus_5V, 2 D- (io), 3 D+ (io), 4 ID, 5 GND, 6 Shield

## JP_MMCX_Vertical
designator JP?  value MMCX  (hidden comment: *)
Connector; RF Coaxial, MMCX, Thru-Hole; 5 Position; Vertical; Manufacturer: Linx Technologies Inc; Manufacturer P/N: CONMMCX001; Prototype: Digikey CONMMCX001-ND; LastRevisionDate: n/a
footprint G_MMCX2.54-V5 (Connector; RF Coaxial, MMCX, Thru-Hole; 5 Position; Vertical)
pins: 1 Signal "Signal Pin", 2 GND

## JP_MOLEX_KK_3POS
designator P?, comment 3 Pin Molex KK Hdr
CONN HEADER 3POS .100 VERT TIN; Manufacturer: Molex/Waldom; Prototype: Digikey WM4201-ND; Manufacturer PN: 22-23-2031; Value: 3 Pin Molex KK Hdr
signal-integrity model Connector
footprint G_MOLEX_KK_3_HDR
pins: 1, 2, 3

## JP_MOLEX_KK_4POS
designator P?, comment 4 Pin Molex KK Hdr
CONN HEADER 4POS .100 VERT TIN; Manufacturer: Molex/Waldom; Prototype: Digikey WM4202-ND; Manufacturer PN: 22-23-2041; Value: 4 Pin Molex KK Hdr
signal-integrity model Connector
footprint G_MOLEX_KK_4_HDR
pins: 1, 2, 3, 4

## JP_MOLEX_KK_5POS
designator P?, comment 5 Pin Molex KK Hdr
CONN HEADER 5POS .100 VERT TIN; Manufacturer: Molex/Waldom; Prototype: Digikey WM4203-ND; Manufacturer PN: 22-23-2051; Value: 5 Pin Molex KK Hdr
signal-integrity model Connector
footprint G_MOLEX_KK_5_HDR
pins: 1, 2, 3, 4, 5

## JP_N2530-5002RB
designator P?, comment 2x15 R/A
CONN HEADER 30 POS RT ANGLE GOLD; Manufacturer: 3M; Manufacturer PN: N2530-5002RB; Prototype: DigiKey MHE30K-ND; Verify: Not Checked; LatestRevisionDate: 24 Feb 09; Value: 2x15 R/A
footprint HDR2X15RA (Connector; Header; 15x2 Position; Right Angle)
pins: 1, 2, 3, 4, 5, 6, 7, 8, 9, 10, 11, 12, 13, 14, 15, 16, 17, 18, 19, 20, 21, 22, 23, 24, 25, 26, 27, 28, 29, 30

## JP_pad
designator P?
Pad
footprint pad
footprint PAD_ROUND; pin to pad pad>1
pins: pad

## JP_SD_AVX
designator J?, comment SD/MMC
SD/MMC socket AVX 5638 series; Manufacturer: AVX Corporation; Manufacturer PN: 145638009211859+; Prototype: Digikey 478-4059-1-ND; LatestRevisionDate: 29 May 08; Value: SD/MMC
signal-integrity model Connector
footprint G_AVX_SD_5638 (AVX SD card connector 5638 series)
pins: 0 CASE, 1 CD/DAT3 (io), 2 CMD (io), 3 VSS (power), 4 VDD (power), 5 CLK (in), 6 VSS (power), 7 DAT0 (io), 8 DAT1 (io), 9 DAT2 (io), C C_Det, S RO_SW

## JP_SD_MMC
designator J?, comment SD/MMC
SD/MMC socket SMT; Manufacturer: 3M; Manufacturer PN: SD-RSMT-2-MQ-WF; Prototype: Digikey 3M5646CT-ND; LatestRevisionDate: 29 May 08; Value: SD/MMC
signal-integrity model Connector
footprint SD_MMC (SD_MMC socket)
pins: 0 CASE, 1 CD/DAT3 (io), 2 CMD (io), 3 VSS (power), 4 VDD (power), 5 CLK (in), 6 VSS (power), 7 DAT0 (io), 8 DAT1 (io), 9 DAT2 (io), C C_Det, S RO_SW

## JP_SMA Straight Jack
designator P?, comment value SMA ST  (hidden comment: SMA)
SMA Straight Jack; Manufacture: Emerson Network Power Connectivity Solutions; Manufacture PN: J608-ND; Prototype: Digikey J608-ND; LastRevisionDate: 29 May 08
signal-integrity model Connector
footprint SMA_ANT (SMA Antenna Connector)
pins: 1 X, 2 Y

## JP_SMA_RightAngle
designator JP?
Thru-hole SMA connector, right angle, bulkhead; Manufacturer: Emerson; Manufacturer P/N: 142-0701-551; Prototype: Digikey J715-ND; LastRevisionDate: n/a; Value: SMA
footprint G_SMA_RA_Thru (Connector; RF Coaxial, SMA< Thru-hole, Right-angle)
pins: 1 Signal "Signal Pin", 2 GND (power), 3 GND (power), 4 GND (power), 5 GND (power)

## JP_TNC_RightAngle
designator JP*  (value not drawn)
Thru-hole TNC connector, right angle, bulkhead; Manufacturer: Tyco/Amp; Manufacturer P/N: 5227839-1; Prototype: Digikey A32444-ND; LastRevisionDate: n/a
pins: 1 Signal (in) "Signal Pin", 2 GND (power), 3 GND (power), 4 GND (power), 5 GND (power)

## JP_USB type B
designator P?, comment Note: Pad functions not checked  (hidden comment: USB Type B)
USB Type B Single Connector; Manufacturer PN: 690-004-221-023; Manufacturer: EDAC Inc.; Prototype: Digikey 151-1121-ND; LatestRevisionDate: 29 May 08; Value: USB Type B
signal-integrity model Connector
footprint USB_B (Thru-Hole USB connector)
pins: 1, 2, 3, 4

## JP_USB_Type_A_Female
designator JP?, comment USB_A_Female
USB type A Female right-angle connector
pins: 1 VBUS (power), 2 D- (in), 3 D+ (in), 4 GND (power), 5 Sheild (power), 6 Sheild (power)
text: USB A Female

## LM2576T-ADJ
designator U?  Verify: NOT CHECKED
Simple Switcher 3A Step Down Voltage Regulator; Manufacturer: National Semiconductor; Prototype: Farnell 9488146 Digikey LM2576T-ADJNS-ND; Latest Revision Date: 12 January 09; Manufacturer PN: LM2576T-ADJ
footprint T05A (TO, Thru-Hole, Vertical, Heatsink Mounted; 5 In-Line Leads; Pitch 1.70 mm)
footprint TO-220_5-Pin (5 pin TO-220 Package)
pins: 1 IN (power), 2 OUT (power), 3 GND (power), 4 FB (in), 5 ~{ON}/OFF (in)

## MC_Enclosure
designator MC?, comment Box enclosure  (mechanical)
Any box enclosure; Prototype: Digikey; Manufacturer: *; Manufacturer PN: *; LastRevisionDate: 29 May 08; Value: Box enclosure

## MC_Fixing
designator SC?, comment Screw M3x12 Posi  (mechanical)
Any Screw or fixing device; Prototype: Digikey; Manufacturer PN: *; Manufacturer: *; LastRevisionDate: 29 May 08; Value: Screw M3x12 Posi

## MC_Fixing M2 Hole
designator SC?, comment HOLE M2
M2 Hole; Prototype: Digikey H739-ND (typical); Manufacturer PN: *; Manufacturer: *; LastRevisionDate: 29 May 08; Value: HOLE M2
footprint M2 Hole
pins: 1

## MC_Fixing M3 Hole
designator SC?, comment HOLE M3
M3 hole; Prototype: Digikey H743-ND (typical); Manufacturer PN: *; Manufacturer: *; LastRevisionDate: 29 May 08; Value: HOLE M3
footprint M3 hole
pins: 1

## MC_Fixing M4 Hole
designator SC?, comment HOLE M4
M4 Hole; Prototype: Digikey H748-ND (typical); Manufacturer PN: *; Manufacturer: *; LastRevisionDate: 29 May 08; Value: HOLE M4
footprint M4 Hole
pins: 1

## RS Sample RS_215k 0603
designator R?, comment 215k
RES 215K OHM 1/10W 1% 0603 SMD; Manufacturer: ROHM; Manufacturer PN: MCR03EZPFX2153; Prototype: DigiKey RHM215KHCT-ND; Value: 215k
simulation model RESISTOR (Resistor)
signal-integrity model Res
footprint 0603 (Non polarized 0603 footprint)
pins: 1, 2

## RS_0R0 0603
designator R?, comment 0R0  (no BOM)
RES 0.0 OHM 1/10W 5% 0603 SMD; Manufacturer: Rohm; Manufacturer PN: MCR03EZPJ000; Prototype: DigiKey RHM0.0GCT-ND; LatestRevisionDate: 3 Jun 08; Value: 0R0
simulation model RESISTOR (Resistor)
signal-integrity model Res
footprint 0603 (Non polarized 0603 footprint)
pins: 1, 2

## RS_0R1_2512
designator R?, comment 0R1
RES 0.1R OHM 3W 1% 2512 SMD; Manufacturer: Bourns; Manufacturer PN: CRA2512-FZ-R100ELF; Prototype: DigiKey CRA2512-FZ-R100ELFCT-ND; Verify: Not Checked; LatestRevisionDate: 20 Feb 09; Value: 0R1
simulation model RESISTOR (Resistor)
signal-integrity model Res
footprint 2512(6432) (2512 (6432 metric) non-polarized footprint)
pins: 1, 2

## RS_0R02_2512
designator R??, comment 0R02
RES 0R02 OHM 3W 1% 2512 SMD; Manufacturer: Bourns; Manufacturer PN: CRA2512-FZ-R020ELF; Prototype: DigiKey CRA2512-FZ-R020ELFCT-ND; Verify: not checked; LatestRevisionDate: 20 Feb 09; Value: 0R02
simulation model RESISTOR (Resistor)
signal-integrity model Res
footprint 2512(6432) (2512 (6432 metric) non-polarized footprint)
pins: 1, 2

## RS_1k2 0603
designator R??, comment Verify: NOT CHECKED  (hidden comment: 1k2)
RES 1.2K OHM 1/10W 5% 0603 SMD; Manufacturer: Yageo; Manufacturer PN: RC0603JR-071K2L; Prototype: DigiKey 311-1.2KGRCT-ND; LatestRevisionDate: 1 Jun 08; Value: 1k2
simulation model RESISTOR (Resistor)
signal-integrity model Res
footprint 0603 (Non polarized 0603 footprint)
pins: 1, 2

## RS_1k 0603
designator R??, comment 1k
RES 1.00K OHM 1/10W 1% 0603 SMD; Manufacturer: ROHM; Manufacturer PN: MCR03EZPFX1001; Prototype: Digikey RHM1.00KHCT-ND; LatestRevisionDate: 17-Jul-2002; Value: 1k
simulation model RESISTOR (Resistor)
signal-integrity model Res
footprint 0603 (Non polarized 0603 footprint)
pins: 1, 2

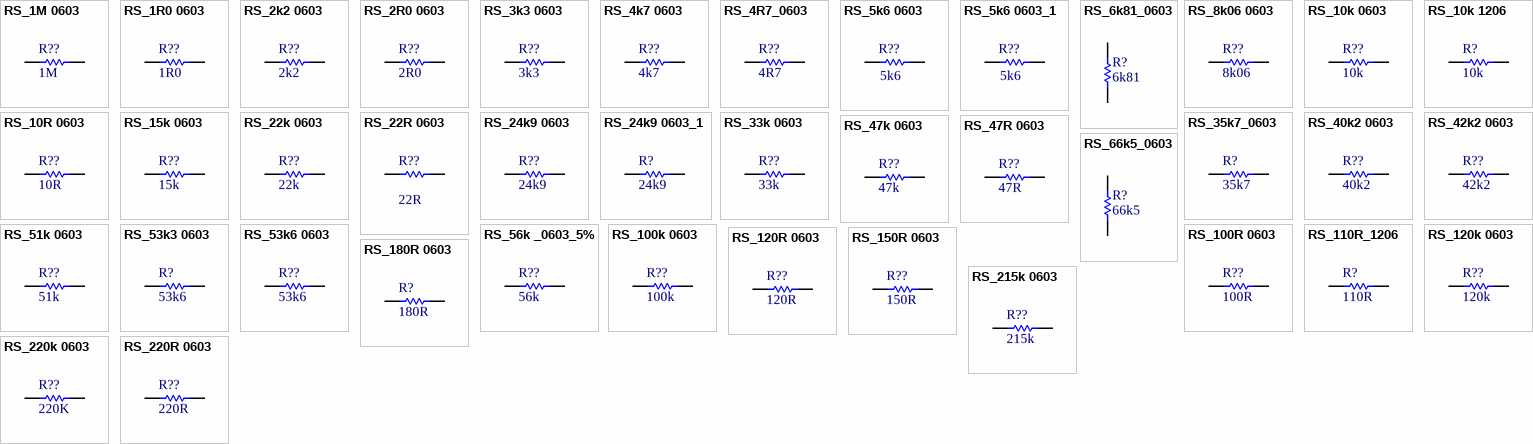
[diagram p7: symbols RS_1M 0603 to RS_220R 0603]

## RS_1M 0603
designator R??, comment 1M
RES 1.00M OHM 1/10W 1% 0603 SMD; Manufacturer: Yageo; Manufacturer PN: RC0603FR-071ML; Prototype: DigiKey 311-1.00MHRCT-ND; LatestRevisionDate: 1 Jun 08; Value: 1M
simulation model RESISTOR (Resistor)
signal-integrity model Res
footprint 0603 (Non polarized 0603 footprint)
pins: 1, 2

## RS_1R0 0603
designator R??, comment 1R0
RES 1R0 OHM 1/10W 1% 0603 SMD; Manufacturer: Yageo; Manufacturer PN: RC0603FR-07100KL; Prototype: DigiKey 311-1.00HRCT-ND; LatestRevisionDate: 29 May 08; Value: 1R0
simulation model RESISTOR (Resistor)
signal-integrity model Res
footprint 0603 (Non polarized 0603 footprint)
pins: 1, 2

## RS_2k2 0603
designator R??, comment 2k2
RES 2.2K OHM 1/10W 5% 0603 SMD; Manufacturer: Yageo; Manufacturer PN: RC0603JR-072K2L; Prototype: DigiKey 311-2.2KGRCT-ND; LatestRevisionDate: 1 Jun 08; Value: 2k2
simulation model RESISTOR (Resistor)
signal-integrity model Res
footprint 0603 (Non polarized 0603 footprint)
pins: 1, 2

## RS_2R0 0603
designator R??, comment 2R0
RES 2.00 OHM 1/10W 1% 0603 SMD; Manufacturer: Yageo; Manufacturer PN: RC0603FR-072RL; Prototype: DigiKey 311-2.00HRCT-ND; LatestRevisionDate: 1 Jun 08; Value: 2R0
simulation model RESISTOR (Resistor)
signal-integrity model Res
footprint 0603 (Non polarized 0603 footprint)
pins: 1, 2

## RS_3k3 0603
designator R??, comment 3k3
RES 3.3K OHM 1/10W 5% 0603 SMD; Manufacturer: Yageo; Manufacturer PN: RC0603JR-073K3L; Prototype: DigiKey 311-3.3KGRCT-ND; LatestRevisionDate: 1 Jun 08; Value: 3k3
simulation model RESISTOR (Resistor)
signal-integrity model Res
footprint 0603 (Non polarized 0603 footprint)
pins: 1, 2

## RS_4k7 0603
designator R??, comment 4k7
RES 4.70K OHM 1/10W 1% 0603 SMD; Manufacturer: ROHM; Manufacturer PN: MCR03EZPFX4701; Prototype: DigiKey RHM4.70KHCT-ND; LatestRevisionDate: 29 May 08; Value: 4k7
simulation model RESISTOR (Resistor)
signal-integrity model Res
footprint 0603 (Non polarized 0603 footprint)
pins: 1, 2

## RS_4R7_0603
designator R??, comment 4R7
RES 4.7R 1/10W 5% 0603 SMD; Manufacturer: Yageo; Manufacturer PN: RC0603JR-074R7L; Prototype: DigiKey 311-4.7GRCT-ND; Verify: Not Checked; LatestRevisionDate: 20 Feb 09; Value: 4R7
simulation model RESISTOR (Resistor)
signal-integrity model Res
footprint 0603 (Non polarized 0603 footprint)
pins: 1, 2

## RS_5k6 0603
designator R??, comment 5k6
RES 5.6K OHM 1/10W 5% 0603 SMD; Manufacturer: Yageo; Manufacturer PN: RC0603JR-075K6L; Prototype: DigiKey 311-5.6KGRCT-ND; LatestRevisionDate: 1 Jun 08; Value: 5k6
simulation model RESISTOR (Resistor)
signal-integrity model Res
footprint 0603 (Non polarized 0603 footprint)
pins: 1, 2

## RS_5k6 0603_1
designator R??, comment 5k6
RES 5.6K OHM 1/10W 5% 0603 SMD; Manufacturer: Yageo; Manufacturer PN: RC0603JR-075K6L; Prototype: DigiKey 311-5.6KGRCT-ND; LatestRevisionDate: 1 Jun 08; Value: 5k6
simulation model RESISTOR (Resistor)
signal-integrity model Res
footprint 0603 (Non polarized 0603 footprint)
pins: 1, 2

## RS_6k81_0603
designator R?, comment 6k81
RES 6k81 OHM 1/10W 1% 0603 SMD; Manufacturer: Rohm; Manufacturer PN: MCR03EZPFX6811; Prototype: DigiKey RHM6.81KHCT-ND; Verify: Not Checked; LatestRevisionDate: 24 Feb 09; Value: 6k81
simulation model RESISTOR (Resistor)
signal-integrity model Res
footprint 0603 (Non polarized 0603 footprint)
pins: 1, 2

## RS_8k06 0603
designator R??, comment 8k06
RES 8k06 OHM 1/10W 1% 0603 SMD; Manufacturer: ROHM; Manufacturer PN: MCR03EZPFX8061; Prototype: DigiKey RHM8.06KHCT-ND; LatestRevisionDate: 29 May 08; Value: 8k06
simulation model RESISTOR (Resistor)
signal-integrity model Res
footprint 0603 (Non polarized 0603 footprint)
pins: 1, 2

## RS_10k 0603
designator R??, comment 10k
RES 10.0K OHM 1/10W 1% 0603 SMD; Manufacturer: Yageo; Manufacturer PN: RC0603FR-0710KL; Prototype: DigiKey 311-10.0KHRCT-ND; LatestRevisionDate: 29 May 08; Value: 10k
simulation model RESISTOR (Resistor)
signal-integrity model Res
footprint 0603 (Non polarized 0603 footprint)
pins: 1, 2

## RS_10k 1206
designator R?, comment 10k
RES 10.0K OHM 1/4W 1% 1206 SMD; Manufacturer: Vishay/Dale; Manufacturer PN: CRCW120610K0FKEA; Prototype: DigiKey 541-10.0KFCT-ND; LatestRevisionDate: 25 June 2009; Value: 10k
simulation model RESISTOR (Resistor)
signal-integrity model Res
footprint 1206 (Non-polarized 1206 footprint)
pins: 1, 2

## RS_10R 0603
designator R??, comment 10R
RES 10 OHM 1/10W 1% 0603 SMD; Manufacturer: Yageo; Manufacturer PN: RC0603FR-0710KL; Prototype: DigiKey 311-10.0HRCT-ND; LatestRevisionDate: 1 Jun 08; Value: 10R
simulation model RESISTOR (Resistor)
signal-integrity model Res
footprint 0603 (Non polarized 0603 footprint)
pins: 1, 2

## RS_15k 0603
designator R??, comment 15k
RES 15.0K OHM 1/10W 1% 0603 SMD; Manufacturer: ROHM; Manufacturer PN: MCR03EZPFX1502; Prototype: DigiKey RHM15.0KHCT-ND; LatestRevisionDate: 29 May 08; Value: 15k
simulation model RESISTOR (Resistor)
signal-integrity model Res
footprint 0603 (Non polarized 0603 footprint)
pins: 1, 2

## RS_22k 0603
designator R??, comment 22k
RES 22.0K OHM 1/10W 1% 0603 SMD; Manufacturer: Yageo; Manufacturer PN: RC0603FR-0722KL; Prototype: DigiKey 311-22.0KHRCT-ND; LatestRevisionDate: 1 Jun 08; Value: 22k
simulation model RESISTOR (Resistor)
signal-integrity model Res
footprint 0603 (Non polarized 0603 footprint)
pins: 1, 2

## RS_22R 0603
designator R??, comment 22R
RES 22 OHM 1/10W 1% 0603 SMD; Manufacturer: Yageo; Manufacturer PN: RC0603JR-0722RL; Prototype: DigiKey 311-22GRTR-ND; LatestRevisionDate: 12 January 09; Value: 22R
simulation model RESISTOR (Resistor)
signal-integrity model Res
footprint 0603 (Non polarized 0603 footprint)
pins: 1, 2

## RS_24k9 0603
designator R??, comment 24k9
RES 24.9K OHM 1/10W 1% 0603 SMD; Manufacturer: ROHM; Manufacturer PN: MCR03EZPFX2492; Prototype: DigiKey RHM24.9KHCT-ND; LatestRevisionDate: 29 May 08; Value: 24k9
simulation model RESISTOR (Resistor)
signal-integrity model Res
footprint 0603 (Non polarized 0603 footprint)
pins: 1, 2

## RS_24k9 0603_1
designator R?, comment 24k9
RES 24K9 OHM 1/10W 1% 0603 SMD; Manufacturer: Yageo; Manufacturer PN: RC0603FR-0724K9L; Prototype: DigiKey 311-24.9KHRCT-ND; LatestRevisionDate: 25 June 2008; Value: 24k9
simulation model RESISTOR (Resistor)
signal-integrity model Res
footprint 0603 (Non polarized 0603 footprint)
pins: 1, 2

## RS_33k 0603
designator R??, comment 33k
RES 33.0K OHM 1/10W 1% 0603 SMD; Manufacturer: Yageo; Manufacturer PN: RC0603FR-0733KL; Prototype: DigiKey 311-33.0KHRCT-ND; LatestRevisionDate: 1 Jun 08; Value: 33k
simulation model RESISTOR (Resistor)
signal-integrity model Res
footprint 0603 (Non polarized 0603 footprint)
pins: 1, 2

## RS_35k7_0603
designator R?, comment 35k7
RES 35.7 OHM 1/10W 1% 0603 SMD; Manufacturer: Rohm; Manufacturer PN: MCR03EZPFX3572; Prototype: DigiKey RHM35.7KHCT-ND; Verify: Not Checked; LatestRevisionDate: 24 Feb 09; Value: 35k7
simulation model RESISTOR (Resistor)
signal-integrity model Res
footprint 0603 (Non polarized 0603 footprint)
pins: 1, 2

## RS_40k2 0603
designator R??, comment 40k2
RES 40.2K OHM 1/10W 1% 0603 SMD; Manufacturer: ROHM; Manufacturer PN: MCR03EZPFX4022; Prototype: Digikey RHM40.2KHCT-ND; LatestRevisionDate: 29 May 08; Value: 40k2
simulation model RESISTOR (Resistor)
signal-integrity model Res
footprint 0603 (Non polarized 0603 footprint)
pins: 1, 2

## RS_42k2 0603
designator R??, comment 42k2
RES 42.2K OHM 1/10W 1% 0603 SMD; Manufacturer: ROHM; Manufacturer PN: MCR03EZPFX4222; Prototype: DigiKey RHM42.2KHCT-ND; LatestRevisionDate: 29 May 08; Value: 42k2
simulation model RESISTOR (Resistor)
signal-integrity model Res
footprint 0603 (Non polarized 0603 footprint)
pins: 1, 2

## RS_47k 0603
designator R??, comment 47k
RES 47.0K OHM 1/10W 1% 0603 SMD; Manufacturer: Yageo; Manufacturer PN: RC0603FR-0747KL; Prototype: DigiKey 311-47.0KHRCT-ND; LatestRevisionDate: 1 Jun 08; Value: 47k
simulation model RESISTOR (Resistor)
signal-integrity model Res
footprint 0603 (Non polarized 0603 footprint)
pins: 1, 2

## RS_47R 0603
designator R??, comment 47R
RES 47 OHM 1/10W 1% 0603 SMD; Manufacturer: Yageo; Manufacturer PN: RC0603FR-0747RL; Prototype: DigiKey 311-47.0HRCT-ND; LatestRevisionDate: 1 Jun 08; Value: 47R
simulation model RESISTOR (Resistor)
signal-integrity model Res
footprint 0603 (Non polarized 0603 footprint)
pins: 1, 2

## RS_51k 0603
designator R??, comment 51k
RES 51.0K OHM 1/10W 1% 0603 SMD; Manufacturer: Yageo; Manufacturer PN: RC0603FR-0751KL; Prototype: DigiKey 311-51.0KHRCT-ND; LatestRevisionDate: 1 Jun 08; Value: 51k
simulation model RESISTOR (Resistor)
signal-integrity model Res
footprint 0603 (Non polarized 0603 footprint)
pins: 1, 2

## RS_53k3 0603
designator R?, comment value 53k6  (hidden comment: Res1)
RES 53.6K OHM 1/10W 1% 0603 SMD; Manufacturer: ROHM; Manufacturer PN: MCR03EZPFX5362; Prototype: DigiKey RHM53.6KHCT-ND; Published: 8-Jun-2000; LatestRevisionDate: 17-Jul-2002; LatestRevisionNote: Re-released for DXP Platform.; PackageReference: AXIAL-0.3; Publisher: Altium Limited
simulation model RESISTOR (Resistor)
signal-integrity model Res
footprint 0603 (Non polarized 0603 footprint)
pins: 1, 2

## RS_53k6 0603
designator R??, comment 53k6
RES 53.6K OHM 1/10W 1% 0603 SMD; Manufacturer: ROHM; Manufacturer PN: MCR03EZPFX5362; Prototype: DigiKey RHM53.6KHCT-ND; LatestRevisionDate: 29 May 08; Value: 53k6
simulation model RESISTOR (Resistor)
signal-integrity model Res
footprint 0603 (Non polarized 0603 footprint)
pins: 1, 2

## RS_56k _0603_5%
designator R??, comment 56k
RES 56.0K OHM 1/10W 5% 0603 SMD; Manufacturer: Yageo; Manufacturer PN: RC0603JR-0756KL; Prototype: DigiKey 311-56KGRCT-ND; LatestRevisionDate: 1 Jun 08; Value: 56k
simulation model RESISTOR (Resistor)
signal-integrity model Res
footprint 0603 (Non polarized 0603 footprint)
pins: 1, 2

## RS_66k5_0603
designator R?, comment 66k5
RES 66K5 OHM 1/10W 1% 0603 SMD; Manufacturer: ROHM; Manufacturer PN: MCR03EZPFX6652; Prototype: DigiKey RHM66.5KHCT-ND; Verify: Not Checked; LatestRevisionDate: 24 Feb 09; Value: 66k5
simulation model RESISTOR (Resistor)
signal-integrity model Res
footprint 0603 (Non polarized 0603 footprint)
pins: 1, 2

## RS_100k 0603
designator R??, comment 100k
RES 100K OHM 1/10W 1% 0603 SMD; Manufacturer: Yageo; Manufacturer PN: RC0603FR-07100KL; Prototype: DigiKey 311-100KHRCT-ND; LatestRevisionDate: 1 Jun 08; Value: 100k
simulation model RESISTOR (Resistor)
signal-integrity model Res
footprint 0603 (Non polarized 0603 footprint)
pins: 1, 2

## RS_100R 0603
designator R??, comment 100R
RES 100 OHM 1/10W 1% 0603 SMD; Manufacturer: ROHM; Manufacturer PN: MCR03EZPFX1000; Prototype: DigiKey RHM100HCT-ND; LatestRevisionDate: n/a; Value: 100R
simulation model RESISTOR (Resistor)
signal-integrity model Res
footprint 0603 (Non polarized 0603 footprint)
pins: 1, 2

## RS_110R_1206
designator R?, comment 110R
RES 110 OHM 1/4W 1% 1206 SMD; Manufacturer: Rohm; Manufacturer PN: MCR18EZPF1100; Prototype: DigiKey RHM110FRCT-ND; Verify: Not Checked; LatestRevisionDate: 23 Feb 09; Value: 110R
simulation model RESISTOR (Resistor)
signal-integrity model Res
footprint 1206 (Non-polarized 1206 footprint)
pins: 1, 2

## RS_120k 0603
designator R??, comment 120k
RES 120K OHM 1/10W 1% 0603 SMD; Manufacturer: ROHM; Manufacturer PN: MCR03EZPFX1203; Prototype: DigiKey RHM120KHCT-ND; LatestRevisionDate: 17-Jul-2002; Value: 120k
simulation model RESISTOR (Resistor)
signal-integrity model Res
footprint 0603 (Non polarized 0603 footprint)
pins: 1, 2

## RS_120R 0603
designator R??, comment 120R
RES 120 OHM 1/10W 1% 0603 SMD; Manufacturer: ROHM; Manufacturer PN: MCR03EZPFX1200; Prototype: DigiKey RHM120HCT-ND; LatestRevisionDate: n/a; Value: 120R
simulation model RESISTOR (Resistor)
signal-integrity model Res
footprint 0603 (Non polarized 0603 footprint)
pins: 1, 2

## RS_150R 0603
designator R??, comment 150R
RES 150 OHM 1/10W 1% 0603 SMD; Manufacturer: ROHM; Manufacturer PN: MCR03EZPFX1500; Prototype: DigiKey RHM150HCT-ND; LatestRevisionDate: 4th July 08; Value: 150R
simulation model RESISTOR (Resistor)
signal-integrity model Res
footprint 0603 (Non polarized 0603 footprint)
pins: 1, 2

## RS_180R 0603
designator R?, comment 180R
RES 180OHM 1/10W 1% 0603 SMD; Manufacturer: Panasonic - ECG; Manufacturer PN: ERJ-3EKF1800V; Prototype: DigiKey P180HCT-ND; LatestRevisionDate: 25 June 2009; Value: 180R
simulation model RESISTOR (Resistor)
signal-integrity model Res
footprint 0603 (Non polarized 0603 footprint)
pins: 1, 2

## RS_215k 0603
designator R??, comment 215k
RES 215K OHM 1/10W 1% 0603 SMD; Manufacturer: ROHM; Manufacturer PN: MCR03EZPFX2153; Prototype: DigiKey RHM215KHCT-ND; LatestRevisionDate: 29 May 08; Value: 215k
simulation model RESISTOR (Resistor)
signal-integrity model Res
footprint 0603 (Non polarized 0603 footprint)
pins: 1, 2

## RS_220k 0603
designator R??, comment 220K
RES 3.3K OHM 1/10W 5% 0603 SMD; Manufacturer: Yageo; Manufacturer PN: RC0603JR-073K3L; Prototype: DigiKey 311-220KGRTR-ND; LatestRevisionDate: 1 Jun 08; Value: 220K
simulation model RESISTOR (Resistor)
signal-integrity model Res
footprint 0603 (Non polarized 0603 footprint)
pins: 1, 2

## RS_220R 0603
designator R??, comment 220R
RES 220 OHM 1/10W 1% 0603 SMD; Manufacturer: ROHM; Manufacturer PN: MCR03EZPFX2200; Prototype: DigiKey RHM220HCT-ND; LatestRevisionDate: n/a; Value: 220R
simulation model RESISTOR (Resistor)
signal-integrity model Res
footprint 0603 (Non polarized 0603 footprint)
pins: 1, 2

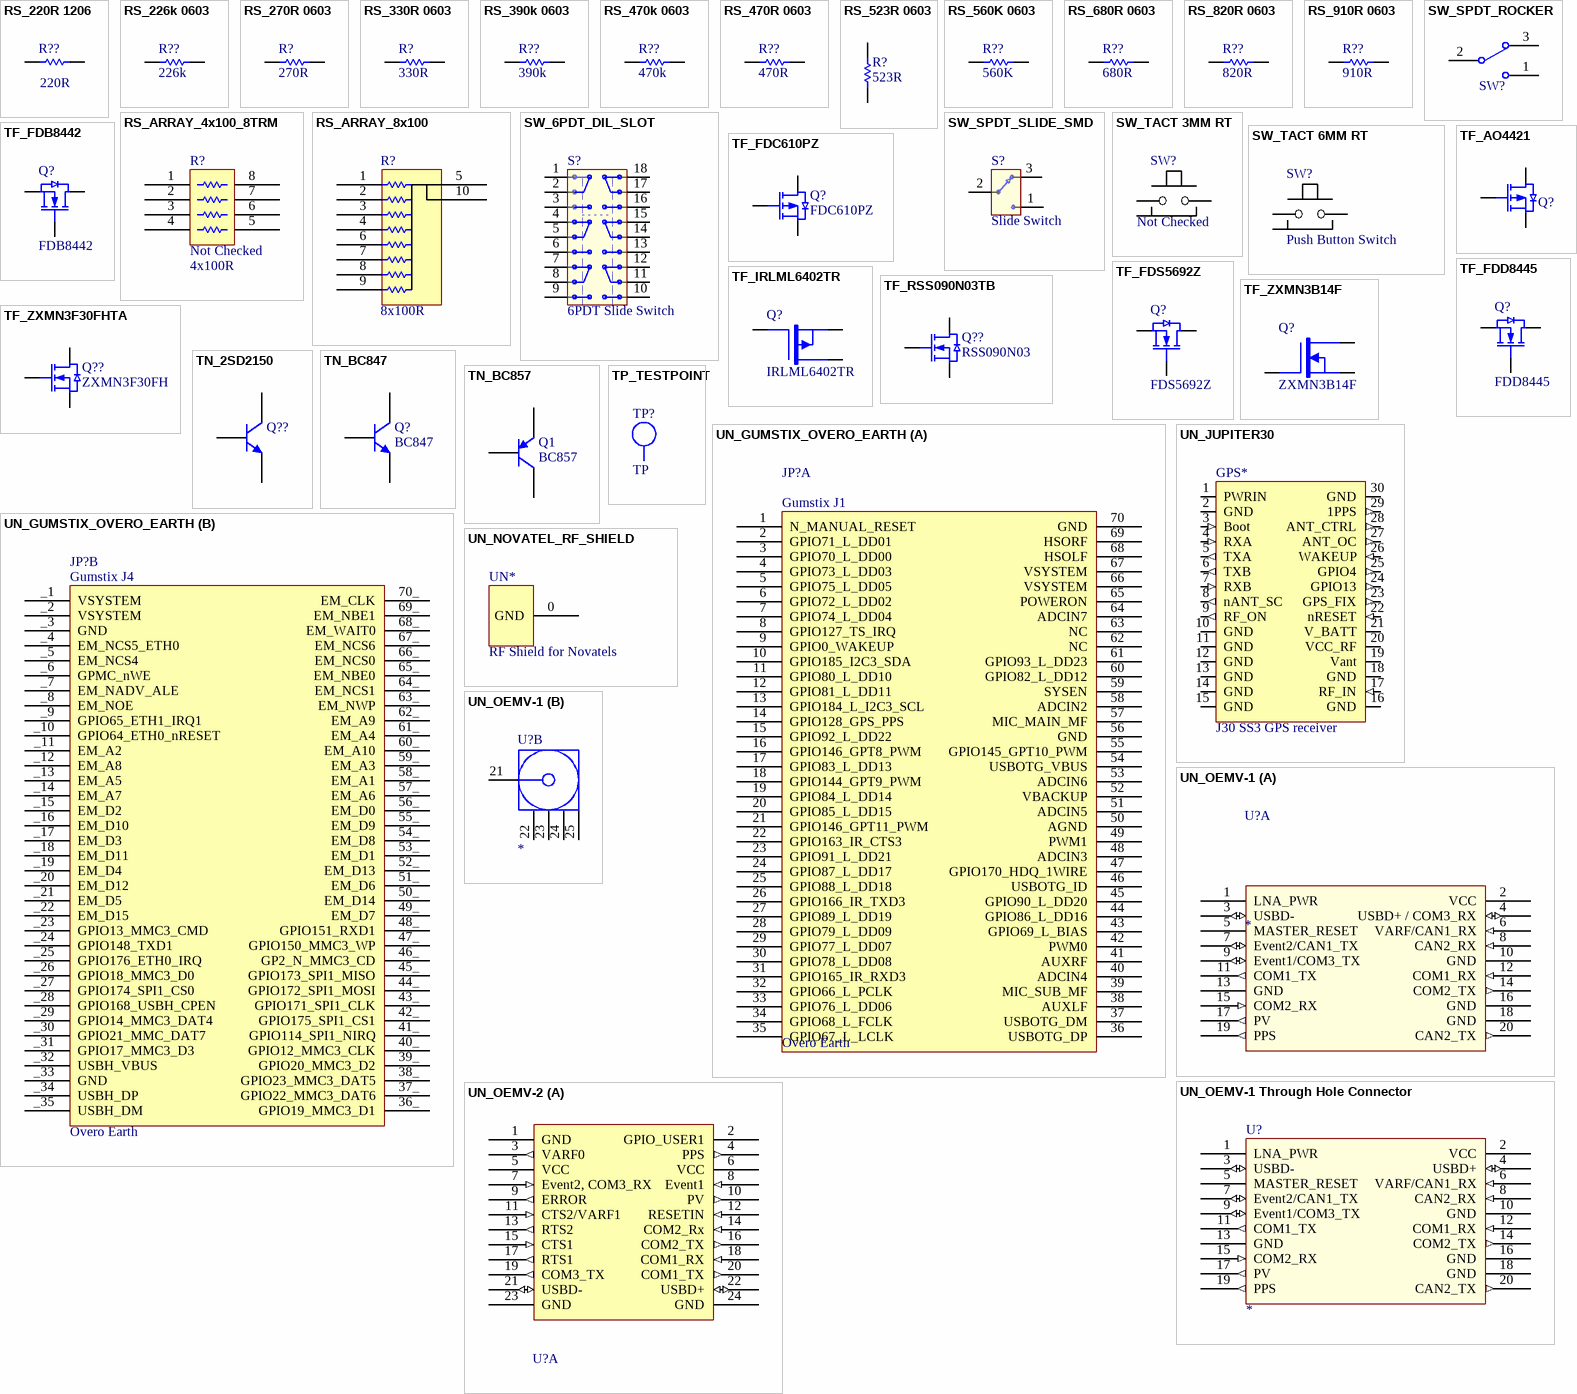
[diagram p8: symbols RS_220R 1206 to UN_OEMV-2]

## RS_220R 1206
designator R??, comment 220R
RES 220 OHM 1/4W 1% 1206 SMD; Manufacturer: Vishay/Dale; Manufacturer PN: CRCW1206220RFKEA; Prototype: DigiKey 541-220FCT-ND; LatestRevisionDate: 25 June 2009; Value: 220R
simulation model RESISTOR (Resistor)
signal-integrity model Res
footprint 1206 (Non-polarized 1206 footprint)
pins: 1, 2

## RS_226k 0603
designator R??, comment 226k
RES 226K OHM 1/10W 1% 0603 SMD; Manufacturer: ROHM; Manufacturer PN: MCR03EZPFX2263; Prototype: DigiKey RHM226KHCT-ND; LatestRevisionDate: 17-Jul-2002; Value: 226k
simulation model RESISTOR (Resistor)
signal-integrity model Res
footprint 0603 (Non polarized 0603 footprint)
pins: 1, 2

## RS_270R 0603
designator R?, comment 270R
RES 270 OHM 1/10W 1% 0603 SMD; Manufacturer: ROHM; Manufacturer PN: MCR03EZPFX2700; Prototype: DigiKey RHM270HCT-ND; LatestRevisionDate: 3 July 2008; Value: 270R
simulation model RESISTOR (Resistor)
signal-integrity model Res
footprint 0603 (Non polarized 0603 footprint)
pins: 1, 2

## RS_330R 0603
designator R?, comment 330R
RES 330 OHM 1/10W 1% 0603 SMD; Manufacturer: Yageo; Manufacturer PN: RC0603FR-07330RL; Prototype: DigiKey 311-330HRCT-ND; LatestRevisionDate: 25 June 2009; Value: 330R
simulation model RESISTOR (Resistor)
signal-integrity model Res
footprint 0603 (Non polarized 0603 footprint)
pins: 1, 2

## RS_390k 0603
designator R??, comment 390k
RES 390K OHM 1/10W 1% 0603 SMD; Manufacturer: ROHM; Manufacturer PN: MCR03EZPFX3903; Prototype: DigiKey RHM390KHCT-ND; LatestRevisionDate: 17-Jul-2002; Value: 390k
simulation model RESISTOR (Resistor)
signal-integrity model Res
footprint 0603 (Non polarized 0603 footprint)
pins: 1, 2

## RS_470k 0603
designator R??, comment 470k
RES 470K OHM 1/10W 5% 0603 SMD; Manufacturer: Yagep; Manufacturer PN: RC0603JR-07470KL; Prototype: Digikey 311-470KGRCT-ND; LatestRevisionDate: 25 June 2009; Value: 470k
simulation model RESISTOR (Resistor)
signal-integrity model Res
footprint 0603 (Non polarized 0603 footprint)
pins: 1, 2

## RS_470R 0603
designator R??, comment 470R
RES 470 OHM 1/10W 1% 0603 SMD; Manufacturer: Yageo; Manufacturer PN: RC0603FR-07470RL; Prototype: DigiKey 311-470HRCT-ND; LatestRevisionDate: 29 May 08; Value: 470R
simulation model RESISTOR (Resistor)
signal-integrity model Res
footprint 0603 (Non polarized 0603 footprint)
pins: 1, 2

## RS_523R 0603
designator R?, comment 523R
RES 523 OHM 1/10W 1% 0603 SMD; Manufacturer: Yageo; Manufacturer PN: RC0603FR-07523RL; Prototype: DigiKey 311-523HRCT-ND; LatestRevisionDate: 25 June 2009; Value: 523R
simulation model RESISTOR (Resistor)
signal-integrity model Res
footprint 0603 (Non polarized 0603 footprint)
pins: 1, 2

## RS_560K 0603
designator R??, comment 560K
RES 3.3K OHM 1/10W 5% 0603 SMD; Manufacturer: Yageo; Manufacturer PN: RC0603JR-073K3L; Prototype: DigiKey 311-560KGRTR-ND; LatestRevisionDate: 1 Jun 08; Value: 560K
simulation model RESISTOR (Resistor)
signal-integrity model Res
footprint 0603 (Non polarized 0603 footprint)
pins: 1, 2

## RS_680R 0603
designator R??, comment 680R
RES 680 OHM 1/10W 1% 0603 SMD; Manufacturer: Yageo; Manufacturer PN: RC0603FR-07680RL; Prototype: DigiKey 311-680HRCT-ND; LatestRevisionDate: 29 May 08; Value: 680R
simulation model RESISTOR (Resistor)
signal-integrity model Res
footprint 0603 (Non polarized 0603 footprint)
pins: 1, 2

## RS_820R 0603
designator R??, comment 820R
RES 820 OHM 1/10W 1% 0603 SMD; Manufacturer: ROHM; Manufacturer PN: MCR03EZPFX8200; Prototype: DigiKey RHM820HCT-ND; LatestRevisionDate: n/a; Value: 820R
simulation model RESISTOR (Resistor)
signal-integrity model Res
footprint 0603 (Non polarized 0603 footprint)
pins: 1, 2